# EAGLE library part RFPA0133 (library rf-micro-devices)
RF POWER AMPLIFIER programmable gain amplifier, high efficiency
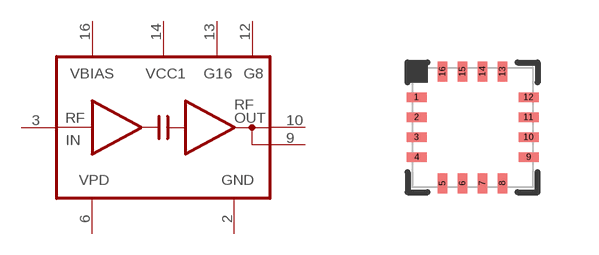
[diagram p2: symbol with the pads of QFN16; footprint QFN16]

Designator prefix U

## RFPA0133  [QFN16]
2  GND  pwr
3  RFIN  in
6  VPD  in
9  RFOUT  pas
10  RFOUT  out
12  G8  in
13  G16  in
14  VCC1  in
16  VBIAS  in

## Footprint QFN16 (pad centres in mm)
QFN 16 body 3x3mm
smd 0.5 x 0.23: 1 -1.4,0.75; 2 -1.4,0.25; 3 -1.4,-0.25; 4 -1.4,-0.75; 9 1.4,-0.75; 10 1.4,-0.25; 11 1.4,0.25; 12 1.4,0.75
smd 0.23 x 0.5: 5 -0.75,-1.4; 6 -0.25,-1.4; 7 0.25,-1.4; 8 0.75,-1.4; 13 0.75,1.4; 14 0.25,1.4; 15 -0.25,1.4; 16 -0.75,1.4